# Altium schematic symbol library IC-Library.SchLib: 12 symbols
Pins are listed as number, name and electrical type; pins without a type are passive.

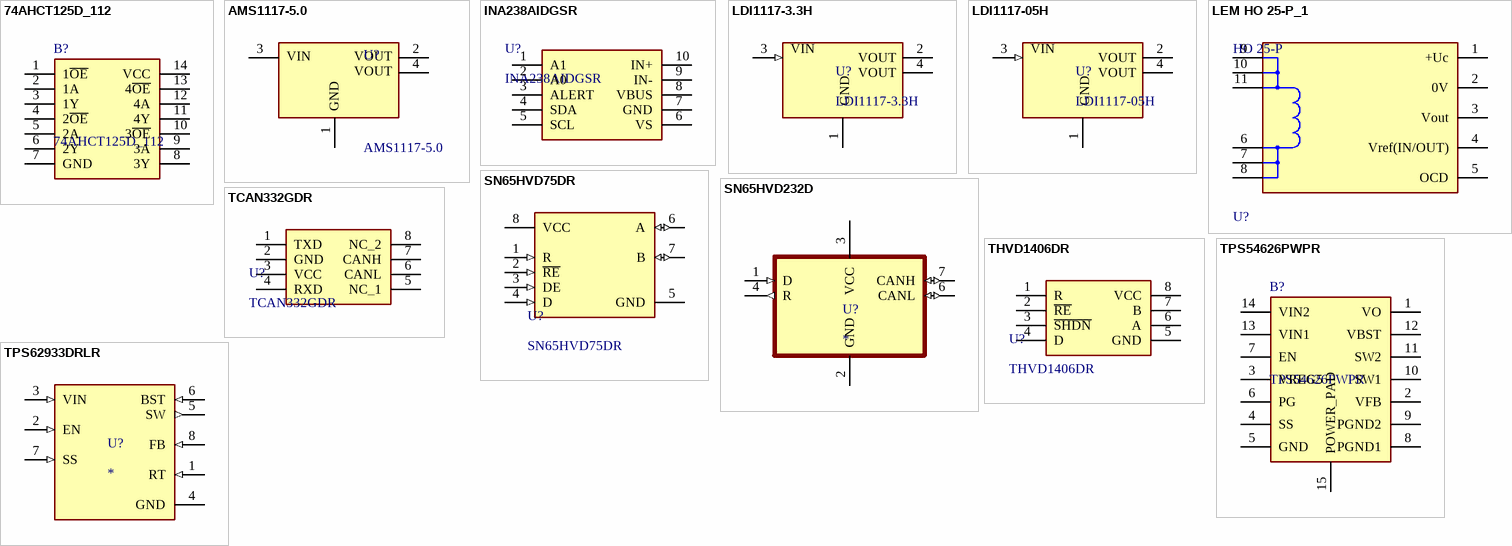
[diagram p0: symbols 74AHCT125D_112 to TPS62933DRLR]

## 74AHCT125D_112
designator B?
74AHC(T)125 - Quad buffer/line driver; 3-state@en-us; Manufacturer_Name: Nexperia; Manufacturer_Part_Number: 74AHCT125D,112; Geometry.Height: 1.75mm; Mouser Part Number: 771-AHCT125D112; Mouser Price/Stock: https://www.mouser.com/Search/Refine.aspx?Keyword=771-AHCT125D112; Arrow Part Number: 74AHCT125D,112; Arrow Price/Stock: https://www.arrow.com/en/products/74ahct125d112/nexperia?region=europe; Datasheet Link: https://assets.nexperia.com/documents/data-sheet/74AHC_AHCT125.pdf
footprint 74AHCT125D_112
pins: 1 1~{OE}, 2 1A, 3 1Y, 4 2~{OE}, 5 2A, 6 2Y, 7 GND, 8 3Y, 9 3A, 10 3~{OE}, 11 4Y, 12 4A, 13 4~{OE}, 14 VCC

## AMS1117-5.0
designator U?
1A LOW DROPOUT VOLTAGE REGULATOR; Manufacturer_Name: Advanced Monolithic Systems; Geometry.Height: 1.8mm; Manufacturer_Part_Number: AMS1117-5.0; Mouser Part Number: *; Mouser Price/Stock: *; Arrow Part Number: *; Arrow Price/Stock: *; Datasheet Link: http://www.advanced-monolithic.com/pdf/ds1117.pdf
footprint AMS1117-5.0
pins: 1, 2 (power), 3 (power), 4 (power)
text: VIN; VOUT; GND

## INA238AIDGSR
designator U?
85-V, 16-bit, high-precision I2C output current/voltage/power monitor with alert 10-VSSOP -40 to 125; Manufacturer_Name: Texas Instruments; Manufacturer Lifecycle Status: ACTIVE; Datasheet Link: https://www.ti.com/lit/ds/symlink/ina238.pdf?ts=1623483707955&ref_url=https%253A%252F%252Fwww.ti.com%252Fstore%252Fti%252Fen%252Fp%252Fproduct%252F%253Fp%253DINA238AIDGSR; Height: 1.1mm; Manufacturer_Part_Number: INA238AIDGSR; Mouser Part Number: 595-INA238AIDGSR; Mouser Price/Stock: https://www.mouser.co.uk/ProductDetail/Texas-Instruments/INA238AIDGSR?qs=DRkmTr78QAQpWvQMAkqDfQ%3D%3D; Arrow Part Number: INA238AIDGSR; Arrow Price/Stock: https://www.arrow.com/en/products/ina238aidgsr/texas-instruments?utm_currency=USD&region=nac; Supplier: DigiKey; Supplier Part Number: 296-INA238AIDGSRCT-ND; Manufacturer: Texas Instruments; Manufacturer Part Number: INA238AIDGSR; RoHS: Compliant; Category: Power Management ICs; Pricing: 1=3,26, 10=2,447, 25=2,2428, 100=2,0184, 250=1,91132, 500=1,88344 (USD); Case/Package: VSSOP; Length: 3mm; Lifecycle Status: Production; Pins: 10; Schedule B: 8542390000, 8542390000|8542390000|8542390000|8542390000|8542390000|8542390000|8542390000|8542390000|8542390000|8542390000|8542390000|8542390000|8542390000|8542390000|8542390000|8542390000|8542390000|8542390000|8542390000|8542390000|8542390000|8542390000|8542390000|85; Thickness: 1.02mm; Width: 3mm; ComponentLink1URL: https://octopart.com:443/opatz8j6/c1?t=XyVZTLNm9_ePY3ZGc7WnwxCxujItchuRLJj6CkysUxGARineyf7S9W1lTZtpdvGrKN9PqufXH2Vp5DF4iI0PAmLVRxJtPCoqMa_3Yx7EmCUprcLp9cc2z3mxrocYZYu_H6tNB4RLIZX8yc2_jZwFvl9kWmpghyBnfmfPNCcCHj9WG1KUH3fGvWh-B3Dty5OndKwLiTMuCynuZqQEMvhHYq8OKaCYxicPR-4azPIH5DLbeaRheWP409TW7_NNkIoSlBggBZt8vUz1AkFskQTI-fVfUp_rKcfapwS7xCCwZOKssU3R1jKvkQDpIuWALrIH0VMSswAvOfD7rtoRLVW_XHJHwA1DZFqMh2nUzRUR_hOiShUwC6jqqC2oc9QjG34mHHd3ibY&src-supplier=Texas+Instruments; ComponentLink1Description: https://octopart.com:443/opatz8j6/c1?t=XyVZTLNm9_ePY3ZGc7WnwxCxujItchuRLJj6CkysUxGARineyf7S9W1lTZtpdvGrKN9PqufXH2Vp5DF4iI0PAmLVRxJtPCoqMa_3Yx7EmCUprcLp9cc2z3mxrocYZYu_H6tNB4RLIZX8yc2_jZwFvl9kWmpghyBnfmfPNCcCHj9WG1KUH3fGvWh-B3Dty5OndKwLiTMuCynuZqQEMvhHYq8OKaCYxicPR-4azPIH5DLbeaRheWP409TW7_NNkIoSlBggBZt8vUz1AkFskQTI-fVfUp_rKcfapwS7xCCwZOKssU3R1jKvkQDpIuWALrIH0VMSswAvOfD7rtoRLVW_XHJHwA1DZFqMh2nUzRUR_hOiShUwC6jqqC2oc9QjG34mHHd3ibY&src-supplier=Texas+Instruments; ComponentLink2URL: https://datasheet.octopart.com:443/INA238AIDGSR-Texas-Instruments-datasheet-165811307.pdf?src-supplier=Augswan; ComponentLink2Description: https://datasheet.octopart.com:443/INA238AIDGSR-Texas-Instruments-datasheet-165811307.pdf?src-supplier=Augswan; ComponentLink3URL: https://datasheet.octopart.com:443/INA238AIDGSR-Texas-Instruments-datasheet-169738673.pdf?src-supplier=LCSC; ComponentLink3Description: https://datasheet.octopart.com:443/INA238AIDGSR-Texas-Instruments-datasheet-169738673.pdf?src-supplier=LCSC; ComponentLink4URL: http://sigma.octopart.com:80/reach_statement/Texas-Instruments-company-64.pdf?src-supplier=Compliance+Statements; ComponentLink4Description: http://sigma.octopart.com:80/reach_statement/Texas-Instruments-company-64.pdf?src-supplier=Compliance+Statements; ComponentLink5URL: http://sigma.octopart.com:80/conflict_mineral_statement/Texas-Instruments-company-63.pdf?src-supplier=Compliance+Statements; ComponentLink5Description: http://sigma.octopart.com:80/conflict_mineral_statement/Texas-Instruments-company-63.pdf?src-supplier=Compliance+Statements; Supplier 1: DigiKey; Supplier Part Number 1: 296-INA238AIDGSRCT-ND
footprint INA238AIDGSR
pins: 1 A1, 2 A0, 3 ALERT, 4 SDA, 5 SCL, 6 VS, 7 GND, 8 VBUS, 9 IN-, 10 IN+

## LDI1117-3.3H
designator U?
Fixed Positive LDO Regulator; Manufacturer: Diotec; Supplier: Mouser; Supplier Part Number: 637-LDI1117-3.3H; Manufacturer Part Number: LDI1117-3.3H; RoHS: No; Category: Voltage Regulators - Linear; Stock: 5056; Pricing: 1=0,4, 10=0,286, 50=0,286, 100=0,199, 1000=0,163, 10000=0,089 (USD); ComponentLink1URL: https://datasheet.octopart.com/LDI1117-3.3H-Diotec-datasheet-154607892.pdf?src-supplier=TME; ComponentLink1Description: https://datasheet.octopart.com/LDI1117-3.3H-Diotec-datasheet-154607892.pdf?src-supplier=TME; ComponentLink2URL: https://datasheet.octopart.com/LDI1117-3.3H-Diotec-datasheet-159101088.pdf?src-supplier=SOS+electronic; ComponentLink2Description: https://datasheet.octopart.com/LDI1117-3.3H-Diotec-datasheet-159101088.pdf?src-supplier=SOS+electronic; ComponentLink3URL: https://datasheet.octopart.com/LDI1117-3.3H-Diotec-datasheet-189099648.pdf?src-supplier=Master+Electronics; ComponentLink3Description: https://datasheet.octopart.com/LDI1117-3.3H-Diotec-datasheet-189099648.pdf?src-supplier=Master+Electronics
footprint LDI1117-3.3H (LDI1117-3.3H, 4-Leads)
pins: 1, 2, 3 (in), 4
text: VIN; VOUT; GND

## LDI1117-05H
designator U?
Fixed Positive LDO Regulator; Manufacturer: Diotec; Supplier: Farnell; Supplier Part Number: 4553249; Manufacturer Part Number: LDI1117-05H; RoHS: No; Category: Voltage Regulators - Linear; Stock: 720; RoHS Compliant: Yes; ComponentLink1URL: http://datasheet.octopart.com/LDI1117-05H-Diotec-datasheet-154607892.pdf?src-supplier=Mouser; ComponentLink1Description: http://datasheet.octopart.com/LDI1117-05H-Diotec-datasheet-154607892.pdf?src-supplier=Mouser; ComponentLink2URL: http://datasheet.octopart.com/LDI1117-05H-Diotec-datasheet-154607892.pdf?src-supplier=Distrelec; ComponentLink2Description: http://datasheet.octopart.com/LDI1117-05H-Diotec-datasheet-154607892.pdf?src-supplier=Distrelec; ComponentLink3URL: http://datasheet.octopart.com/LDI1117-05H-Diotec-datasheet-154607892.pdf?src-supplier=Onlinecomponents.com; ComponentLink3Description: http://datasheet.octopart.com/LDI1117-05H-Diotec-datasheet-154607892.pdf?src-supplier=Onlinecomponents.com; ComponentLink4URL: http://datasheet.octopart.com/LDI1117-05H-Diotec-datasheet-154607892.pdf?src-supplier=DComponents; ComponentLink4Description: http://datasheet.octopart.com/LDI1117-05H-Diotec-datasheet-154607892.pdf?src-supplier=DComponents; ComponentLink5URL: https://datasheet.octopart.com/LDI1117-05H-Diotec-datasheet-154607892.pdf?src-supplier=TME; ComponentLink5Description: https://datasheet.octopart.com/LDI1117-05H-Diotec-datasheet-154607892.pdf?src-supplier=TME; ComponentLink6URL: https://datasheet.octopart.com/LDI1117-05H-Diotec-datasheet-159101088.pdf?src-supplier=SOS+electronic; ComponentLink6Description: https://datasheet.octopart.com/LDI1117-05H-Diotec-datasheet-159101088.pdf?src-supplier=SOS+electronic; ComponentLink7URL: http://datasheet.octopart.com/LDI1117-05H-Diotec-datasheet-154607892.pdf?src-supplier=Electro+Sonic; ComponentLink7Description: http://datasheet.octopart.com/LDI1117-05H-Diotec-datasheet-154607892.pdf?src-supplier=Electro+Sonic; ComponentLink8URL: https://datasheet.octopart.com/LDI1117-05H-Diotec-datasheet-189099648.pdf?src-supplier=Master+Electronics; ComponentLink8Description: https://datasheet.octopart.com/LDI1117-05H-Diotec-datasheet-189099648.pdf?src-supplier=Master+Electronics
footprint LDI1117-05H (SOT223, 4-Leads)
pins: 1, 2, 3 (in), 4
text: VIN; VOUT; GND

## LEM HO 25-P_1
designator U?, comment HO 25-P
Current Sensor 25A 1 Channel Hall Effect, Open Loop Bidirectional Module, Single Pass Through
footprint LEM HO 25-P
pins: 1 +Uc (power), 2 0V (power), 3 Vout, 4 Vref(IN/OUT), 5 OCD, 6 IN, 7 IN, 8 IN, 9 OUT, 10 OUT, 11 OUT

## SN65HVD75DR
designator U?
Single Transmitter/Receiver RS-422/RS-485 8-Pin SOIC T/R; Manufacturer: Texas Instruments; Manufacturer Lifecycle Status: ACTIVE; Data Rate: 20Mbps; Interface: RS-422, RS-485; Logic Function: Transceiver; Max Junction Temperature (Tj): 150°C; Max Supply Voltage: 3.6V; Min Supply Voltage: 3V; Nominal Supply Current: 950µA; Number of Drivers: 1; Operating Supply Voltage: 3.3V; Receiver Hysteresis: 80mV; Simplex/Duplex: Half Duplex; Supplier: DigiKey; Supplier Part Number: 296-38570-1-ND; Manufacturer Part Number: SN65HVD75DR; RoHS: Compliant; Category: RS-232 / RS-422 / RS-485 Interface ICs; Stock: 19374; Pricing: 1=2,18, 10=1,612, 25=1,4704, 100=1,3144, 250=1,24008, 500=1,19528, 1000=1,15839 (USD); Ambient Temperature Range High: 125°C; Case/Package: SOIC; Contact Plating: Gold; Height: 1.75mm; Lead Free: Lead Free; Length: 4.9mm; Lifecycle Status: Production; Max Operating Temperature: 125°C; Min Operating Temperature: -40°C; Pins: 8; Number of Receivers: 1; Number of Transceivers: 1; Number of Transmitters: 1; Packaging: Tape and Reel; Radiation Hardening: No; REACH SVHC: No; Schedule B: 8542390000, 8542390000|8542390000|8542390000|8542390000|8542390000; Thickness: 1.58mm; Width: 3.91mm; ComponentLink1URL: https://datasheet.octopart.com:443/SN65HVD75DR-Texas-Instruments-datasheet-22138306.pdf?src-supplier=Texas+Instruments; ComponentLink1Description: https://datasheet.octopart.com:443/SN65HVD75DR-Texas-Instruments-datasheet-22138306.pdf?src-supplier=Texas+Instruments; ComponentLink2URL: https://octopart.com:443/opatz8j6/c1?t=n-jLi9Hpj9Y1CtPvMq2wOWlt-fEIf69pcO_lcFh_oE0lP0UEYhb18J_Iy_8ZFNUCuyymRdaX8eMNg-AWn_ExZtGn32Zq0CkiG1pBHU4b6nja_Za_5YDFtI7XDIx6JgM7tTBVSWQxX3zpR6GJKtqTpFn4N3Px7iL7giCcRUdPhbCOuuMtZjzDAulhRL4-l8kJRFa8ZYcsDjWofUjrYJp33V_cFwj6fSgilYVUsUehb6BTYstndtkD3u_E8yWStnyvQ9RuB-KDft8Cssj0uzNxAssUSPlx5j82pqaHF34l0kh9MV0qibcgTRJzKY6eoGJoP4efwPiAV05SwETRDTp4KaeNuvVDeUjJsgbn-0JDhnvl-36UpEO5PxKaD1Xwrs2QC2UoaCMc&src-supplier=Texas+Instruments; ComponentLink2Description: https://octopart.com:443/opatz8j6/c1?t=n-jLi9Hpj9Y1CtPvMq2wOWlt-fEIf69pcO_lcFh_oE0lP0UEYhb18J_Iy_8ZFNUCuyymRdaX8eMNg-AWn_ExZtGn32Zq0CkiG1pBHU4b6nja_Za_5YDFtI7XDIx6JgM7tTBVSWQxX3zpR6GJKtqTpFn4N3Px7iL7giCcRUdPhbCOuuMtZjzDAulhRL4-l8kJRFa8ZYcsDjWofUjrYJp33V_cFwj6fSgilYVUsUehb6BTYstndtkD3u_E8yWStnyvQ9RuB-KDft8Cssj0uzNxAssUSPlx5j82pqaHF34l0kh9MV0qibcgTRJzKY6eoGJoP4efwPiAV05SwETRDTp4KaeNuvVDeUjJsgbn-0JDhnvl-36UpEO5PxKaD1Xwrs2QC2UoaCMc&src-supplier=Texas+Instruments; ComponentLink3URL: https://datasheet.octopart.com:443/SN65HVD75DR-Texas-Instruments-datasheet-17762390.pdf?src-supplier=Texas+Instruments; ComponentLink3Description: https://datasheet.octopart.com:443/SN65HVD75DR-Texas-Instruments-datasheet-17762390.pdf?src-supplier=Texas+Instruments; ComponentLink4URL: https://datasheet.octopart.com:443/SN65HVD75DR-Texas-Instruments-datasheet-13302759.pdf?src-supplier=Texas+Instruments; ComponentLink4Description: https://datasheet.octopart.com:443/SN65HVD75DR-Texas-Instruments-datasheet-13302759.pdf?src-supplier=Texas+Instruments; ComponentLink5URL: https://datasheet.octopart.com:443/SN65HVD75DR-Texas-Instruments-datasheet-12493769.pdf?src-supplier=Texas+Instruments; ComponentLink5Description: https://datasheet.octopart.com:443/SN65HVD75DR-Texas-Instruments-datasheet-12493769.pdf?src-supplier=Texas+Instruments; ComponentLink6URL: https://datasheet.octopart.com:443/SN65HVD75DR-Texas-Instruments-datasheet-11514831.pdf?src-supplier=Texas+Instruments; ComponentLink6Description: https://datasheet.octopart.com:443/SN65HVD75DR-Texas-Instruments-datasheet-11514831.pdf?src-supplier=Texas+Instruments; ComponentLink7URL: https://datasheet.octopart.com:443/SN65HVD75DR-Texas-Instruments-datasheet-10945678.pdf?src-supplier=Texas+Instruments; ComponentLink7Description: https://datasheet.octopart.com:443/SN65HVD75DR-Texas-Instruments-datasheet-10945678.pdf?src-supplier=Texas+Instruments; ComponentLink8URL: https://datasheet.octopart.com:443/SN65HVD75DR-Texas-Instruments-datasheet-10899452.pdf?src-supplier=Texas+Instruments; ComponentLink8Description: https://datasheet.octopart.com:443/SN65HVD75DR-Texas-Instruments-datasheet-10899452.pdf?src-supplier=Texas+Instruments; ComponentLink9URL: https://sigma.octopart.com:443/49249642/technical_drawing/Texas-Instruments-SN65HVD75DR.pdf?src-supplier=Texas+Instruments; ComponentLink9Description: https://sigma.octopart.com:443/49249642/technical_drawing/Texas-Instruments-SN65HVD75DR.pdf?src-supplier=Texas+Instruments; ComponentLink10URL: https://datasheet.octopart.com:443/SN65HVD75DR-Texas-Instruments-datasheet-47564841.pdf?src-supplier=Newark; ComponentLink10Description: https://datasheet.octopart.com:443/SN65HVD75DR-Texas-Instruments-datasheet-47564841.pdf?src-supplier=Newark; ComponentLink11URL: https://datasheet.octopart.com:443/SN65HVD75DR-Texas-Instruments-datasheet-62292549.pdf?src-supplier=Farnell; ComponentLink11Description: https://datasheet.octopart.com:443/SN65HVD75DR-Texas-Instruments-datasheet-62292549.pdf?src-supplier=Farnell; ComponentLink12URL: https://datasheet.octopart.com:443/SN65HVD75DR-Texas-Instruments-datasheet-67294880.pdf?src-supplier=Farnell; ComponentLink12Description: https://datasheet.octopart.com:443/SN65HVD75DR-Texas-Instruments-datasheet-67294880.pdf?src-supplier=Farnell; ComponentLink13URL: https://datasheet.octopart.com:443/SN65HVD75DR-Texas-Instruments-datasheet-165804306.pdf?src-supplier=LCSC; ComponentLink13Description: https://datasheet.octopart.com:443/SN65HVD75DR-Texas-Instruments-datasheet-165804306.pdf?src-supplier=LCSC; ComponentLink14URL: https://datasheet.octopart.com:443/SN65HVD75DR-Texas-Instruments-datasheet-159115721.pdf?src-supplier=LCSC; ComponentLink14Description: https://datasheet.octopart.com:443/SN65HVD75DR-Texas-Instruments-datasheet-159115721.pdf?src-supplier=LCSC; ComponentLink15URL: https://datasheet.octopart.com:443/SN65HVD75DR-Texas-Instruments-datasheet-164416300.pdf?src-supplier=SHENGYU+ELECTRONICS; ComponentLink15Description: https://datasheet.octopart.com:443/SN65HVD75DR-Texas-Instruments-datasheet-164416300.pdf?src-supplier=SHENGYU+ELECTRONICS; ComponentLink16URL: https://datasheet.octopart.com:443/SN65HVD75DR-Texas-Instruments-datasheet-137316104.pdf?src-supplier=Future+Electronics; ComponentLink16Description: https://datasheet.octopart.com:443/SN65HVD75DR-Texas-Instruments-datasheet-137316104.pdf?src-supplier=Future+Electronics; ComponentLink17URL: https://datasheet.octopart.com:443/SN65HVD75DR-Texas-Instruments-datasheet-140571633.pdf?src-supplier=Arrow.cn; ComponentLink17Description: https://datasheet.octopart.com:443/SN65HVD75DR-Texas-Instruments-datasheet-140571633.pdf?src-supplier=Arrow.cn; ComponentLink18URL: https://datasheet.octopart.com:443/SN65HVD75DR-Texas-Instruments-datasheet-11568815.pdf?src-supplier=Arrow+Electronics; ComponentLink18Description: https://datasheet.octopart.com:443/SN65HVD75DR-Texas-Instruments-datasheet-11568815.pdf?src-supplier=Arrow+Electronics; ComponentLink19URL: http://sigma.octopart.com:80/reach_statement/Texas-Instruments-company-64.pdf?src-supplier=Compliance+Statements; ComponentLink19Description: http://sigma.octopart.com:80/reach_statement/Texas-Instruments-company-64.pdf?src-supplier=Compliance+Statements; ComponentLink20URL: http://sigma.octopart.com:80/conflict_mineral_statement/Texas-Instruments-company-63.pdf?src-supplier=Compliance+Statements; ComponentLink20Description: http://sigma.octopart.com:80/conflict_mineral_statement/Texas-Instruments-company-63.pdf?src-supplier=Compliance+Statements
footprint SN65HVD75DR
pins: 1 R (in), 2 ~{RE} (in), 3 DE (in), 4 D (in), 5 GND (power), 6 A (io), 7 B (io), 8 VCC (power)

## SN65HVD232D
designator U?
Texas Instruments - SN65HVD232DR - Can Transceiver, 1MBPS, 1/1, 3.3V, SOIC-8, Full Reel; Manufacturer Lifecycle Status: ACTIVE; Max Supply Voltage: 3.6V; Min Supply Voltage: 3V; Nominal Supply Current: 17mA; Number of Drivers: 1; SnapEDA_Link: https://www.snapeda.com/parts/SN65HVD232D/Texas+Instruments/view-part/?ref=snap; Package: SOIC-8 Texas Instruments; Value: *; MF: Texas Instruments; MP: SN65HVD232D; Check_prices: https://www.snapeda.com/parts/SN65HVD232D/Texas+Instruments/view-part/?ref=eda; Supplier: Arrow Electronics; Supplier Part Number: SN65HVD232DR; Manufacturer: Texas Instruments; Manufacturer Part Number: SN65HVD232DR; RoHS: Compliant; Category: CAN Transceivers; Stock: 10000; Pricing: 2500=1,1159, 5000=1,076, 7500=1,062 (USD); Case/Package: SOIC; Data Rate: 1Mbps; Height: 1.75mm; Lead Free: Lead Free; Length: 4.9mm; Lifecycle Status: Production; Max Operating Temperature: 85°C; Min Operating Temperature: -40°C; Pins: 8; Number of Receive Buffers: 1; Number of Receivers: 1; Number of Transceivers: 1; Number of Transmit Buffers: 1; Packaging: Cut Tape; Radiation Hardening: No; REACH SVHC: No; Schedule B: 8542390000, 8542390000|8542390000|8542390000|8542390000|8542390000; Thickness: 1.58mm; Weight: 72.603129mg; Width: 3.91mm; ComponentLink1URL: https://octopart.com:443/opatz8j6/c1?t=KNMFt9M64p-_id6rZ0-P1CX6CGmvk_NFg0bt7DHXbi_P10EFF0MZE_9gM8ERckOxIywTBgDrXd4Bw1XwEAcVVdK92p9CEfdSNaVajf6_bxnez3EeN1RE1wZBaojbXTwQ_101S7Bb856c3hUAWErS0_zGIM1B6Z6dFQwv_Ps2SUdVVUCjmJkLnMLZKTBWfnIVcgJIheW78JYanUyW_1u-I93chBuiSPXQYIk2xXb9JgOyrE9lHEnesRSQq9luJOd1yknyGQP0N3Is0_dGM9QrGV5UOgjoada9tMnQwKJP8gahr3iTK59XJFH6OfbHTOm3R9BdESCrBMbrE2MVOGPPkVOTrqf0YMovDpmf-konbncFnSES8CNOhHqMwHv2HEwKcPoK44nl&src-supplier=Texas+Instruments; ComponentLink1Description: https://octopart.com:443/opatz8j6/c1?t=KNMFt9M64p-_id6rZ0-P1CX6CGmvk_NFg0bt7DHXbi_P10EFF0MZE_9gM8ERckOxIywTBgDrXd4Bw1XwEAcVVdK92p9CEfdSNaVajf6_bxnez3EeN1RE1wZBaojbXTwQ_101S7Bb856c3hUAWErS0_zGIM1B6Z6dFQwv_Ps2SUdVVUCjmJkLnMLZKTBWfnIVcgJIheW78JYanUyW_1u-I93chBuiSPXQYIk2xXb9JgOyrE9lHEnesRSQq9luJOd1yknyGQP0N3Is0_dGM9QrGV5UOgjoada9tMnQwKJP8gahr3iTK59XJFH6OfbHTOm3R9BdESCrBMbrE2MVOGPPkVOTrqf0YMovDpmf-konbncFnSES8CNOhHqMwHv2HEwKcPoK44nl&src-supplier=Texas+Instruments; ComponentLink2URL: https://sigma.octopart.com:443/49249642/technical_drawing/Texas-Instruments-SN65HVD232DR.pdf?src-supplier=Texas+Instruments; ComponentLink2Description: https://sigma.octopart.com:443/49249642/technical_drawing/Texas-Instruments-SN65HVD232DR.pdf?src-supplier=Texas+Instruments; ComponentLink3URL: https://datasheet.octopart.com:443/SN65HVD232DR-Texas-Instruments-datasheet-81447765.pdf?src-supplier=Upverter; ComponentLink3Description: https://datasheet.octopart.com:443/SN65HVD232DR-Texas-Instruments-datasheet-81447765.pdf?src-supplier=Upverter; ComponentLink4URL: https://datasheet.octopart.com:443/SN65HVD232DR-Texas-Instruments-datasheet-37140773.pdf?src-supplier=Newark; ComponentLink4Description: https://datasheet.octopart.com:443/SN65HVD232DR-Texas-Instruments-datasheet-37140773.pdf?src-supplier=Newark; ComponentLink5URL: https://datasheet.octopart.com:443/SN65HVD232DR-Texas-Instruments-datasheet-14436966.pdf?src-supplier=Newark; ComponentLink5Description: https://datasheet.octopart.com:443/SN65HVD232DR-Texas-Instruments-datasheet-14436966.pdf?src-supplier=Newark; ComponentLink6URL: https://datasheet.octopart.com:443/SN65HVD232DR-Texas-Instruments-datasheet-58296547.pdf?src-supplier=Newark; ComponentLink6Description: https://datasheet.octopart.com:443/SN65HVD232DR-Texas-Instruments-datasheet-58296547.pdf?src-supplier=Newark; ComponentLink7URL: https://datasheet.octopart.com:443/SN65HVD232DR-Texas-Instruments-datasheet-48117850.pdf?src-supplier=Newark; ComponentLink7Description: https://datasheet.octopart.com:443/SN65HVD232DR-Texas-Instruments-datasheet-48117850.pdf?src-supplier=Newark; ComponentLink8URL: https://datasheet.octopart.com:443/SN65HVD232DR-Texas-Instruments-datasheet-10256024.pdf?src-supplier=Arrow+Electronics; ComponentLink8Description: https://datasheet.octopart.com:443/SN65HVD232DR-Texas-Instruments-datasheet-10256024.pdf?src-supplier=Arrow+Electronics; ComponentLink9URL: https://datasheet.octopart.com:443/SN65HVD232DR-Texas-Instruments-datasheet-149765.pdf?src-supplier=Mouser; ComponentLink9Description: https://datasheet.octopart.com:443/SN65HVD232DR-Texas-Instruments-datasheet-149765.pdf?src-supplier=Mouser; ComponentLink10URL: https://datasheet.octopart.com:443/SN65HVD232DR-Texas-Instruments-datasheet-62292544.pdf?src-supplier=Farnell; ComponentLink10Description: https://datasheet.octopart.com:443/SN65HVD232DR-Texas-Instruments-datasheet-62292544.pdf?src-supplier=Farnell; ComponentLink11URL: https://datasheet.octopart.com:443/SN65HVD232DR-Texas-Instruments-datasheet-164416263.pdf?src-supplier=SHENGYU+ELECTRONICS; ComponentLink11Description: https://datasheet.octopart.com:443/SN65HVD232DR-Texas-Instruments-datasheet-164416263.pdf?src-supplier=SHENGYU+ELECTRONICS; ComponentLink12URL: https://datasheet.octopart.com:443/SN65HVD232DR-Texas-Instruments-datasheet-159115712.pdf?src-supplier=LCSC; ComponentLink12Description: https://datasheet.octopart.com:443/SN65HVD232DR-Texas-Instruments-datasheet-159115712.pdf?src-supplier=LCSC; ComponentLink13URL: https://datasheet.octopart.com:443/SN65HVD232DR-Texas-Instruments-datasheet-137316104.pdf?src-supplier=Future+Electronics; ComponentLink13Description: https://datasheet.octopart.com:443/SN65HVD232DR-Texas-Instruments-datasheet-137316104.pdf?src-supplier=Future+Electronics; ComponentLink14URL: https://datasheet.octopart.com:443/SN65HVD232DR-Texas-Instruments-datasheet-8625468.pdf?src-supplier=Verical; ComponentLink14Description: https://datasheet.octopart.com:443/SN65HVD232DR-Texas-Instruments-datasheet-8625468.pdf?src-supplier=Verical; ComponentLink15URL: https://datasheet.octopart.com:443/SN65HVD232DR-Texas-Instruments-datasheet-8378736.pdf?src-supplier=Verical; ComponentLink15Description: https://datasheet.octopart.com:443/SN65HVD232DR-Texas-Instruments-datasheet-8378736.pdf?src-supplier=Verical; ComponentLink16URL: http://sigma.octopart.com:80/conflict_mineral_statement/Texas-Instruments-company-63.pdf?src-supplier=Compliance+Statements; ComponentLink16Description: http://sigma.octopart.com:80/conflict_mineral_statement/Texas-Instruments-company-63.pdf?src-supplier=Compliance+Statements; ComponentLink17URL: http://sigma.octopart.com:80/reach_statement/Texas-Instruments-company-64.pdf?src-supplier=Compliance+Statements; ComponentLink17Description: http://sigma.octopart.com:80/reach_statement/Texas-Instruments-company-64.pdf?src-supplier=Compliance+Statements
footprint SN65HVD232D
pins: 1 D (in), 2 GND (power), 3 VCC (power), 4 R (out), 6 CANL (io), 7 CANH (io)

## TCAN332GDR
designator U?
3.3-V CAN Transceivers with CAN FD (Flexible Data Rate) 8-SOIC -40 to 125; Manufacturer: Texas Instruments; Manufacturer Lifecycle Status: ACTIVE; Supplier: DigiKey; Supplier Part Number: 296-48678-1-ND; Manufacturer Part Number: TCAN332GDR; RoHS: Compliant; Category: CAN Transceivers; Stock: 4774; Pricing: 1=2,71, 10=2,021, 25=1,848, 100=1,6576, 250=1,56684, 500=1,53152 (USD); Case/Package: SOIC; Height: 1.75mm; Lead Free: Lead Free; Length: 4.9mm; Lifecycle Status: Production; Max Operating Temperature: 125°C; Min Operating Temperature: -40°C; Pins: 8; Thickness: 1.58mm; Width: 3.91mm; ComponentLink1URL: https://datasheet.octopart.com:443/TCAN332GDR-Texas-Instruments-datasheet-62057962.pdf?src-supplier=Texas+Instruments; ComponentLink1Description: https://datasheet.octopart.com:443/TCAN332GDR-Texas-Instruments-datasheet-62057962.pdf?src-supplier=Texas+Instruments; ComponentLink2URL: https://octopart.com:443/opatz8j6/c1?t=Fim9K0uhurL3e-64ewRPRu2hzD6XBMTpaS3peMNeRQGdAPJMxV5dpDLVgJyuO_P4O4ggunH2lrh5amG8cDN644qOKp-rMrPHwRhWUIrHn0bzeZVVUbsr2M72b6PgQlxLldm4RQX58xtipHIVUQ9n3j21H1DkLh4_7SXPzTuHaIsBH9AF2gycgFMmCo2d18ECHdzunFD4nFXD1uZ0NZyu2cFq_vDtF5TCh3oQofcxl6XlKc8IRlGphMiWX1-H-GrJRfCOqdlBEaN3yoeUESa4Rdelhx3RTUBrPKmhDb-oLKbaFhGIFdCz5qUOKi7WlXgmp3d98vxT9kb4idGeRYMwJbKCxTgnxtzothCZpspf30IxwGF7roI0pcaKLIGA-2bwGuZ5fiI&src-supplier=Texas+Instruments; ComponentLink2Description: https://octopart.com:443/opatz8j6/c1?t=Fim9K0uhurL3e-64ewRPRu2hzD6XBMTpaS3peMNeRQGdAPJMxV5dpDLVgJyuO_P4O4ggunH2lrh5amG8cDN644qOKp-rMrPHwRhWUIrHn0bzeZVVUbsr2M72b6PgQlxLldm4RQX58xtipHIVUQ9n3j21H1DkLh4_7SXPzTuHaIsBH9AF2gycgFMmCo2d18ECHdzunFD4nFXD1uZ0NZyu2cFq_vDtF5TCh3oQofcxl6XlKc8IRlGphMiWX1-H-GrJRfCOqdlBEaN3yoeUESa4Rdelhx3RTUBrPKmhDb-oLKbaFhGIFdCz5qUOKi7WlXgmp3d98vxT9kb4idGeRYMwJbKCxTgnxtzothCZpspf30IxwGF7roI0pcaKLIGA-2bwGuZ5fiI&src-supplier=Texas+Instruments; ComponentLink3URL: https://datasheet.octopart.com:443/TCAN332GDR-Texas-Instruments-datasheet-61500394.pdf?src-supplier=Texas+Instruments; ComponentLink3Description: https://datasheet.octopart.com:443/TCAN332GDR-Texas-Instruments-datasheet-61500394.pdf?src-supplier=Texas+Instruments; ComponentLink4URL: https://sigma.octopart.com:443/49249642/technical_drawing/Texas-Instruments-TCAN332GDR.pdf?src-supplier=Texas+Instruments; ComponentLink4Description: https://sigma.octopart.com:443/49249642/technical_drawing/Texas-Instruments-TCAN332GDR.pdf?src-supplier=Texas+Instruments; ComponentLink5URL: https://datasheet.octopart.com:443/TCAN332GDR-Texas-Instruments-datasheet-192327331.pdf?src-supplier=HQonline; ComponentLink5Description: https://datasheet.octopart.com:443/TCAN332GDR-Texas-Instruments-datasheet-192327331.pdf?src-supplier=HQonline; ComponentLink6URL: https://datasheet.octopart.com:443/TCAN332GDR-Texas-Instruments-datasheet-159117518.pdf?src-supplier=LCSC; ComponentLink6Description: https://datasheet.octopart.com:443/TCAN332GDR-Texas-Instruments-datasheet-159117518.pdf?src-supplier=LCSC; ComponentLink7URL: https://datasheet.octopart.com:443/TCAN332GDR-Texas-Instruments-datasheet-149637585.pdf?src-supplier=SHENGYU+ELECTRONICS; ComponentLink7Description: https://datasheet.octopart.com:443/TCAN332GDR-Texas-Instruments-datasheet-149637585.pdf?src-supplier=SHENGYU+ELECTRONICS; ComponentLink8URL: http://sigma.octopart.com:80/reach_statement/Texas-Instruments-company-64.pdf?src-supplier=Compliance+Statements; ComponentLink8Description: http://sigma.octopart.com:80/reach_statement/Texas-Instruments-company-64.pdf?src-supplier=Compliance+Statements; ComponentLink9URL: http://sigma.octopart.com:80/conflict_mineral_statement/Texas-Instruments-company-63.pdf?src-supplier=Compliance+Statements; ComponentLink9Description: http://sigma.octopart.com:80/conflict_mineral_statement/Texas-Instruments-company-63.pdf?src-supplier=Compliance+Statements
footprint SOIC127P600X175-8N
pins: 1 TXD, 2 GND, 3 VCC, 4 RXD, 5 NC_1, 6 CANL, 7 CANH, 8 NC_2

## THVD1406DR
designator U?
3.3-V to 5-V 500-Kbps half-duplex RS-485 transceiver auto-direction control ±12-kV IEC ESD 8-SOIC -40 to 125; Manufacturer: Texas Instruments; Manufacturer Lifecycle Status: ACTIVE; Supplier: DigiKey; Supplier Part Number: 296-THVD1406DRCT-ND; Manufacturer Part Number: THVD1406DR; RoHS: Compliant; Category: Integrated Circuits (ICs); Stock: 2789; Pricing: 1=1,72, 10=1,257, 25=1,1424, 100=1,0164, 250=0,95628, 500=0,92002, 1000=0,91494 (USD); Case/Package: SOIC; Height: 1.75mm; Length: 4.9mm; Lifecycle Status: Production; Pins: 8; Thickness: 1.58mm; Width: 3.91mm; ComponentLink1URL: https://octopart.com:443/opatz8j6/c1?t=2lI__BkUQ1xwY9kHNd8eYxCAM8iLM_FgltEQ1IO6ko7_J5dzlRfErhoS2VuXg-axmu35tHe6xFiPe7MYKPFvV-dy3nIG9s3NJA0ErWfdrKDirdlmgh356IG-PQ2XWgFJDCJccpoQtQsg13hA_5m5lKyDGmkMVNChYEag8uk4WHNZpCeqeZyq-o13vnhtIUj1o03Pf3jmRR3w8kDw90f-34G7o4yUBoqAoakg1O24sFCcCpS3f5lc8pghjzV8L4mAcKX6y6PNE8Xs84P_YNErqjUnXhKNxf-NFzK6TWa9jK5NPoG9ddsY0OtA5ykFXF75BaeKJ_s9JvLxqkj3BXgq8qynINgxI_OyH86OW_yPFQ_-wlcyMHijrRmTrvovB-5KRqPFqPLR&src-supplier=Texas+Instruments; ComponentLink1Description: https://octopart.com:443/opatz8j6/c1?t=2lI__BkUQ1xwY9kHNd8eYxCAM8iLM_FgltEQ1IO6ko7_J5dzlRfErhoS2VuXg-axmu35tHe6xFiPe7MYKPFvV-dy3nIG9s3NJA0ErWfdrKDirdlmgh356IG-PQ2XWgFJDCJccpoQtQsg13hA_5m5lKyDGmkMVNChYEag8uk4WHNZpCeqeZyq-o13vnhtIUj1o03Pf3jmRR3w8kDw90f-34G7o4yUBoqAoakg1O24sFCcCpS3f5lc8pghjzV8L4mAcKX6y6PNE8Xs84P_YNErqjUnXhKNxf-NFzK6TWa9jK5NPoG9ddsY0OtA5ykFXF75BaeKJ_s9JvLxqkj3BXgq8qynINgxI_OyH86OW_yPFQ_-wlcyMHijrRmTrvovB-5KRqPFqPLR&src-supplier=Texas+Instruments; ComponentLink2URL: https://datasheet.octopart.com:443/THVD1406DR-Texas-Instruments-datasheet-183820944.pdf?src-supplier=LCSC; ComponentLink2Description: https://datasheet.octopart.com:443/THVD1406DR-Texas-Instruments-datasheet-183820944.pdf?src-supplier=LCSC; ComponentLink3URL: https://datasheet.octopart.com:443/THVD1406DR-Texas-Instruments-datasheet-165811890.pdf?src-supplier=Augswan; ComponentLink3Description: https://datasheet.octopart.com:443/THVD1406DR-Texas-Instruments-datasheet-165811890.pdf?src-supplier=Augswan; ComponentLink4URL: http://sigma.octopart.com:80/reach_statement/Texas-Instruments-company-64.pdf?src-supplier=Compliance+Statements; ComponentLink4Description: http://sigma.octopart.com:80/reach_statement/Texas-Instruments-company-64.pdf?src-supplier=Compliance+Statements; ComponentLink5URL: http://sigma.octopart.com:80/conflict_mineral_statement/Texas-Instruments-company-63.pdf?src-supplier=Compliance+Statements; ComponentLink5Description: http://sigma.octopart.com:80/conflict_mineral_statement/Texas-Instruments-company-63.pdf?src-supplier=Compliance+Statements
footprint SOIC127P600X175-8N
pins: 1 R, 2 ~{RE}, 3 ~{SHDN}, 4 D, 5 GND, 6 A, 7 B, 8 VCC

## TPS54626PWPR
designator B?
4.5-V to 18-V, 6.5-A synchronous buck converter with eco-mode in HTSSOP package 14-HTSSOP -40 to 85; Manufacturer_Name: Texas Instruments; Manufacturer Lifecycle Status: ACTIVE; Geometry.Height: 1.2mm; Max Supply Voltage: 18V; Max Junction Temperature (Tj): 150°C; Max Output current: 6.5A; Max Output Voltage: 5.5V; Min Input Voltage: 4.5V; Min Output Voltage: 765mV; Number of Outputs: 1; Output Configuration: Positive; Output Type: Adjustable; Quiescent Current: 950µA; Switching Frequency: 650kHz; Synchronous Rectifier: Yes; Manufacturer_Part_Number: TPS54626PWPR; Mouser Part Number: 595-TPS54626PWPR; Mouser Price/Stock: https://www.mouser.com/Search/Refine.aspx?Keyword=595-TPS54626PWPR; Arrow Part Number: TPS54626PWPR; Arrow Price/Stock: https://www.arrow.com/en/products/tps54626pwpr/texas-instruments; Datasheet Link: http://www.ti.com/lit/gpn/tps54626; Supplier: DigiKey; Supplier Part Number: 296-40807-1-ND; Manufacturer: Texas Instruments; Manufacturer Part Number: TPS54626PWPR; RoHS: Compliant; Category: Voltage Regulators - Switching; Stock: 2008; Pricing: 1=2,62, 10=1,949, 25=1,7824, 100=1,5986, 250=1,511, 500=1,45818, 1000=1,41471 (USD); Case/Package: SOP; Height: 1.2mm; Lead Free: Lead Free; Length: 5mm; Lifecycle Status: Production; Max Operating Temperature: 85°C; Min Operating Temperature: -40°C; Min Supply Voltage: 4.5V; Mounting Technology: Surface Mount; Pins: 14; Operating Supply Voltage: 18V; Output Current: 6.5A; Output Voltage: 5.5V; Packaging: Tape & Reel (TR); Radiation Hardening: No; Schedule B: 8542390000, 8542390000|8542390000|8542390000|8542390000|8542390000; Thickness: 1mm; Topology: Buck; Weight: 240.999296mg; Width: 4.4mm; ComponentLink1URL: https://sigma.octopart.com:443/159569814/technical_drawing/Texas-Instruments-TPS54626PWPR.pdf?src-supplier=Texas+Instruments; ComponentLink1Description: https://sigma.octopart.com:443/159569814/technical_drawing/Texas-Instruments-TPS54626PWPR.pdf?src-supplier=Texas+Instruments; ComponentLink2URL: https://octopart.com:443/opatz8j6/c1?t=junKIVYlBbJDuToYkP2u6iV_naOc3Ho3DaOgm-CZ1UNwzrO6Mwyt4_bqvjuo9VmmQwBrWZSgc4LMoLaqIUkSz1Xp0i9S1rGYecaLkVbwuYCFoHmPHRnGPZOeqL-psw5WJA7ukYFP-z3UDe3vNSZVHaSS5TxmzYc38o1a76CPyg8DfEPdGkibNetDDoh0UPz4M4fSBrk37deijP5Y4U2a4nCx67PN7G5YxWzDYRetJGeVH0J_jhwrCM2X4qBFoA_wruu_NjKBHA4DIZrHf9JZLVDCNqpVByfdRJxT7EWUiLr8Dj5AnH3Xy44ZP455MYbgrmSiHAkyMUWlRSGl12e9NFk8w0cDAeKGDR43UxISDxcxxqmRqcKUGnIReVBdDrWwUstg4jH0&src-supplier=Texas+Instruments; ComponentLink2Description: https://octopart.com:443/opatz8j6/c1?t=junKIVYlBbJDuToYkP2u6iV_naOc3Ho3DaOgm-CZ1UNwzrO6Mwyt4_bqvjuo9VmmQwBrWZSgc4LMoLaqIUkSz1Xp0i9S1rGYecaLkVbwuYCFoHmPHRnGPZOeqL-psw5WJA7ukYFP-z3UDe3vNSZVHaSS5TxmzYc38o1a76CPyg8DfEPdGkibNetDDoh0UPz4M4fSBrk37deijP5Y4U2a4nCx67PN7G5YxWzDYRetJGeVH0J_jhwrCM2X4qBFoA_wruu_NjKBHA4DIZrHf9JZLVDCNqpVByfdRJxT7EWUiLr8Dj5AnH3Xy44ZP455MYbgrmSiHAkyMUWlRSGl12e9NFk8w0cDAeKGDR43UxISDxcxxqmRqcKUGnIReVBdDrWwUstg4jH0&src-supplier=Texas+Instruments; ComponentLink3URL: https://datasheet.octopart.com:443/TPS54626PWPR-Texas-Instruments-datasheet-20674354.pdf?src-supplier=Texas+Instruments; ComponentLink3Description: https://datasheet.octopart.com:443/TPS54626PWPR-Texas-Instruments-datasheet-20674354.pdf?src-supplier=Texas+Instruments; ComponentLink4URL: https://datasheet.octopart.com:443/TPS54626PWPR-Texas-Instruments-datasheet-17275025.pdf?src-supplier=Texas+Instruments; ComponentLink4Description: https://datasheet.octopart.com:443/TPS54626PWPR-Texas-Instruments-datasheet-17275025.pdf?src-supplier=Texas+Instruments; ComponentLink5URL: https://sigma.octopart.com:443/49250594/technical_drawing/Texas-Instruments-TPS54626PWPR.pdf?src-supplier=Texas+Instruments; ComponentLink5Description: https://sigma.octopart.com:443/49250594/technical_drawing/Texas-Instruments-TPS54626PWPR.pdf?src-supplier=Texas+Instruments; ComponentLink6URL: https://datasheet.octopart.com:443/TPS54626PWPR-Texas-Instruments-datasheet-164392911.pdf?src-supplier=LCSC; ComponentLink6Description: https://datasheet.octopart.com:443/TPS54626PWPR-Texas-Instruments-datasheet-164392911.pdf?src-supplier=LCSC; ComponentLink7URL: https://datasheet.octopart.com:443/TPS54626PWPR-Texas-Instruments-datasheet-152588636.pdf?src-supplier=Arrow.cn; ComponentLink7Description: https://datasheet.octopart.com:443/TPS54626PWPR-Texas-Instruments-datasheet-152588636.pdf?src-supplier=Arrow.cn; ComponentLink8URL: https://datasheet.octopart.com:443/TPS54626PWPR-Texas-Instruments-datasheet-137316104.pdf?src-supplier=Future+Electronics; ComponentLink8Description: https://datasheet.octopart.com:443/TPS54626PWPR-Texas-Instruments-datasheet-137316104.pdf?src-supplier=Future+Electronics; ComponentLink9URL: http://sigma.octopart.com:80/reach_statement/Texas-Instruments-company-64.pdf?src-supplier=Compliance+Statements; ComponentLink9Description: http://sigma.octopart.com:80/reach_statement/Texas-Instruments-company-64.pdf?src-supplier=Compliance+Statements; ComponentLink10URL: http://sigma.octopart.com:80/conflict_mineral_statement/Texas-Instruments-company-63.pdf?src-supplier=Compliance+Statements; ComponentLink10Description: http://sigma.octopart.com:80/conflict_mineral_statement/Texas-Instruments-company-63.pdf?src-supplier=Compliance+Statements
footprint TPS54626PWPR
pins: 1 VO, 2 VFB, 3 VREG5, 4 SS, 5 GND, 6 PG, 7 EN, 8 PGND1, 9 PGND2, 10 SW1, 11 SW2, 12 VBST, 13 VIN1, 14 VIN2, 15 POWER_PAD

## TPS62933DRLR
designator U?
3.8-V to 30-V, 3-A, 200-kHz to 2.2-MHz, low-IQ synchronous buck converter in SOT-583 package; MF: Texas Instruments; MP: TPS62933DRLR; SnapEDA_Link: https://www.snapeda.com/parts/TPS62933DRLR/Texas+Instruments/view-part/?ref=snap; Package: SOT-583 Texas Instruments; Value: *; Check_prices: https://www.snapeda.com/parts/TPS62933DRLR/Texas+Instruments/view-part/?ref=eda
footprint TPS62933DRLR
pins: 1 RT (in), 2 EN (in), 3 VIN (in), 4 GND (power), 5 SW (out), 6 BST (in), 7 SS (in), 8 FB (in)